# Altium schematic symbol library Microneedle.SchLib: 2 symbols
Pins are listed as number, name and electrical type; pins without a type are passive.

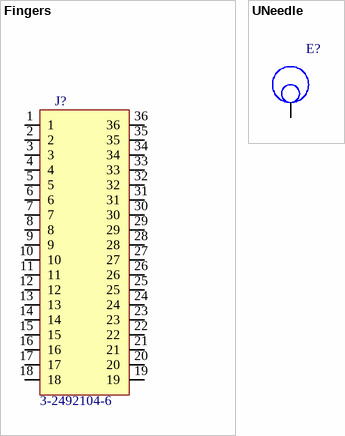
[diagram p0: symbols Fingers to UNeedle]

## Fingers
designator J?, comment 3-2492104-6
XXX - Description - Package; GRAMS Lib Spec: 2.7
footprint Fingers
pins: 1, 2, 3, 4, 5, 6, 7, 8, 9, 10, 11, 12, 13, 14, 15, 16, 17, 18, 19, 20, 21, 22, 23, 24, 25, 26, 27, 28, 29, 30, 31, 32, 33, 34, 35, 36

## UNeedle
designator E?  (value not drawn)
footprint UNeedle
pins: 1